# Altium footprint library NCP164CSN330T1G.PcbLib: 1 footprints
Each footprint in its own frame and in the unit in brackets; x right, y up, seen from the top. Pads: shape width x height; smd on the part's side, far side on the other; paste and mask are expansions set on the pad; w line width, h text height; cw(c..) or ccw(c..) is an arc to the next point about the centre after c.
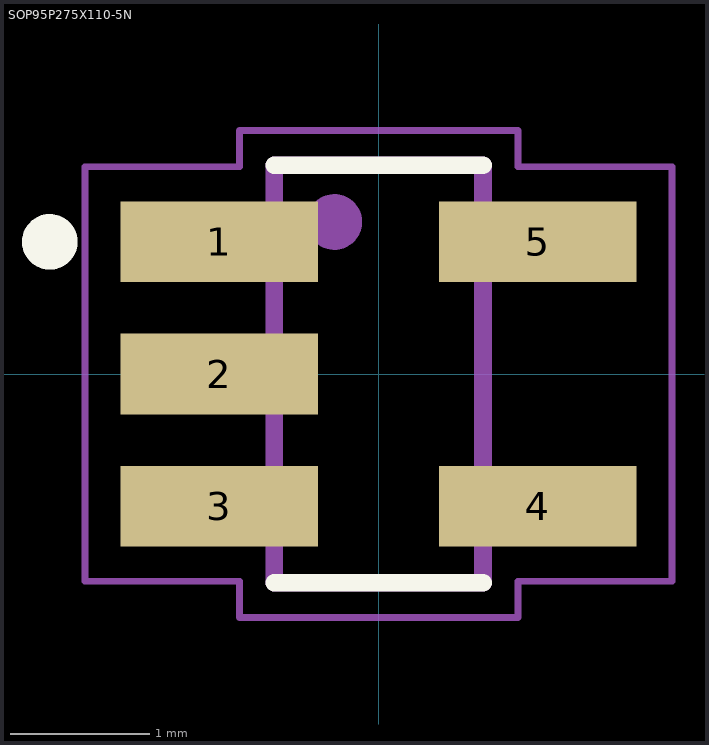
[diagram p0: the footprint, top view; thin cyan lines are the x and y axes]

## SOP95P275X110-5N [mm]
pads (5):
  rect 1.42x0.58 smd: 1(-1.145,0.95) 2(-1.145,0) 3(-1.145,-0.95) 4(1.145,-0.95) 5(1.145,0.95)
Top Overlay:
  circle w0.2: c-2.365,0.95 r0.1
  lines w0.127: -0.75,-1.5 0.75,-1.5 ; -0.75,1.5 0.75,1.5
Mechanical 13:
  circle w0.2: c-0.319,1.093 r0.1
  lines w0.127: -0.75,-1.5 0.75,-1.5 0.75,1.5 -0.75,1.5 -0.75,-1.5
Mechanical 15:
  lines w0.05: -2.11,-1.49 -1,-1.49 -1,-1.75 1,-1.75 1,-1.49 2.11,-1.49 2.11,1.49 1,1.49 1,1.75 -1,1.75 -1,1.49 -2.11,1.49 -2.11,-1.49